# Altium schematic symbol library 插槽.SchLib: 1 symbol
Pins are listed as number, name and electrical type; pins without a type are passive.

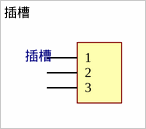
[diagram p0: symbol 插槽]

## 插槽
designator 插槽  (value not drawn)
footprint 杜邦线插槽
pins: 1, 2, 3